# EAGLE library part 74*4020 (library 74ttl-din)
14-bit asynchronous binary COUNTER
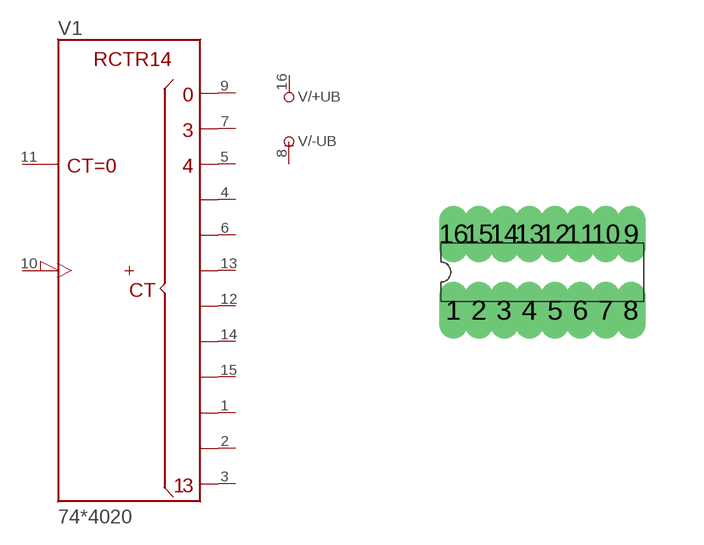
[diagram p141: symbol with the pads of DIL16; footprint DIL16]

Designator prefix V; gates /+UB=+UB /-UB=-UB 1=4020

## 744020N  [DIL16]
1  1:QL  out
2  1:QM  out
3  1:QN  out
4  1:QF  out
5  1:QE  out
6  1:QG  out
7  1:QD  out
8  /-UB:-UB  pwr
9  1:QA  out
10  1:CLK  in
11  1:CLR  in
12  1:QI  out
13  1:QH  out
14  1:QJ  out
15  1:QK  out
16  /+UB:+UB  pwr

## Footprint DIL16 (pad centres in mm)
Dual In Line Package
drill 0.203 long: 1 -2.223,-0.953; 2 -1.587,-0.953; 3 -0.953,-0.953; 4 -0.318,-0.953; 5 0.318,-0.953; 6 0.953,-0.953; 7 1.587,-0.953; 8 2.223,-0.953; 9 2.223,0.953; 10 1.587,0.953; 11 0.953,0.953; 12 0.318,0.953; 13 -0.318,0.953; 14 -0.953,0.953; 15 -1.587,0.953; 16 -2.223,0.953